# Altium schematic symbol library Passives.SchLib: 6 symbols
Pins are listed as number, name and electrical type; pins without a type are passive.

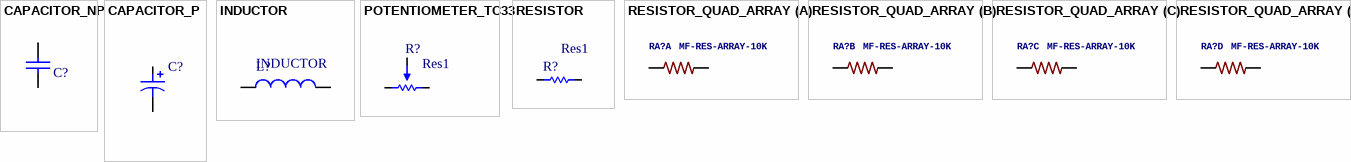
[diagram p0: symbols CAPACITOR_NP to RESISTOR_QUAD_ARRAY]

## CAPACITOR_NP
designator C?
DeviceSetName: CAPACITOR_NP; POPULATE: 1; LibraryName: MF_Passives
footprint C0402L
footprint C0402M
footprint C0402N
footprint C0603L
footprint C0603M
footprint C0603N
footprint C0805L
footprint C0805M
footprint C0805N
footprint C1206L
footprint C1206M
footprint C1206N
footprint C1210L
footprint C1210M
footprint C1210N
pins: 1, 2

## CAPACITOR_P
designator C?, comment Cap  (value not drawn)
DeviceSetName: CAPACITOR_P; POPULATE: 1
footprint CP4MM_L
footprint CP4MM_M
footprint CP4MM_N
footprint CP6.3MM_L
footprint CP6.3MM_M
footprint CP6.3MM_N
footprint CP10MM_L
footprint CP10MM_M
footprint CP10MM_N
footprint CP12.5MM_L
footprint CP12.5MM_M
footprint CP12.5MM_N
footprint 2917
footprint 2917-M
footprint 2917-L
pins: 1, 2

## INDUCTOR
designator L?
POPULATE: 1; LibraryName: MF_Passives; DeviceSetName: INDUCTOR
footprint L1210_L
footprint L1210_M
footprint L1210_N
pins: 1, 2

## POTENTIOMETER_TC33
designator R?, comment Res1
HOUSEPART: YES; MPN: TC33X-2-103E; MF_PARTNUM: MF-RES-TC33X-10K; SymbolName_1: POTENTIOMETER; POPULATE: 1; TOLERANCE: 25%; WATTAGE: 100mW; DeviceName: POTENTIOMETER; DeviceSetName: POTENTIOMETER; URL: https://factory.macrofab.com/part/MF-RES-TC33X-10K; DATASHEET: http://www.bourns.com/docs/Product-Datasheets/TC33.pdf; Supplier 1: Digi-Key; Supplier Part Number 1: TC33X-103ECT-ND
footprint TC33
pins: 1, 2, 3

## RESISTOR
designator R?, comment Res1
SymbolName_1: RESISTOR; POPULATE: 1; LibraryName: MF_Passives; DeviceSetName: RESISTOR
footprint R0402L
footprint R0402M
footprint R0402N
footprint R0603L
footprint R0603M
footprint R0603N
footprint R0805L
footprint R0805M
footprint R0805N
footprint R1206L
footprint R1206M
footprint R1206N
footprint R1210L
footprint R1210M
footprint R1210N
pins: 1, 2

## RESISTOR_QUAD_ARRAY
designator RA?, comment MF-RES-ARRAY-10K
HOUSEPART: YES; SymbolName_1: RESISTOR_QUAD_ARRAY; POPULATE: 1; TOLERANCE: 5%; VOLTAGE: 50V; WATTAGE: 62mW; LibraryName: MF_Passives; DeviceSetName: RESISTOR_QUAD_ARRAY; MPN: MF-RES-ARRAY-10K; MF_PARTNUM: MF-RES-ARRAY-10K; URL: https://factory.macrofab.com/part/MF-RES-ARRAY-10K
footprint RA1206L
footprint RA1206M
footprint RA1206N
part A pins: 1, 8 2
part B pins: 2 1, 7 2
part C pins: 3 1, 6 2
part D pins: 4 1, 5 2